# EAGLE library part MS-22D28-G020 (library MS-22D28-G020)
SMD,7x4x2.1mm Slide Switches ROHS Source: Datasheet <https://datasheet.lcsc.com/lcsc/2012062037_G-Switch-MS-22D28-G020_C963205.pdf>
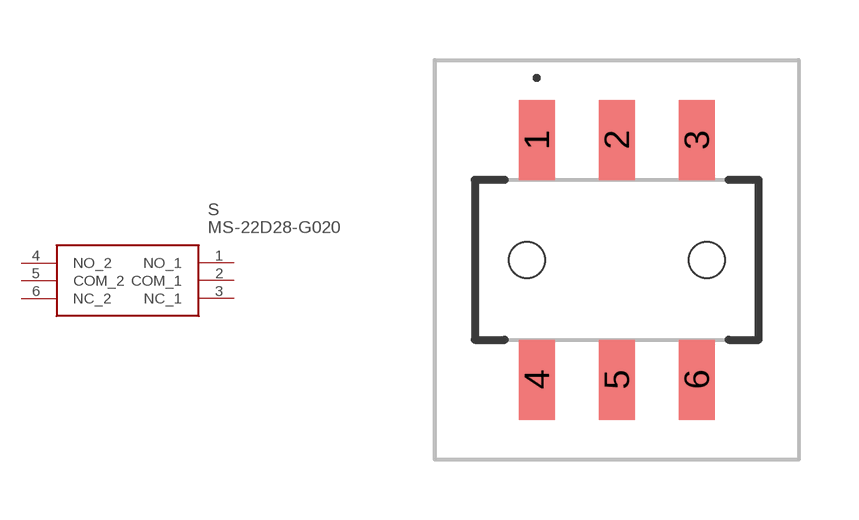
[diagram p0: symbol with the pads of MS22D28G020; footprint MS22D28G020]

Designator prefix S

## MS-22D28-G020 (Description: SMD,7x4x2.1mm Slide Switches ROHS; Height: 4.25mm; Manufacturer_Name: G-Switch Electronic; Manufacturer_Part_Number: MS-22D28-G020)  [MS22D28G020]
1  NO_1
2  COM_1
3  NC_1
4  NO_2
5  COM_2
6  NC_2

## Footprint MS22D28G020 (pad centres in mm)
MS-22D28-G020-1
smd 0.9 x 2: 1 -2,3; 2 0,3; 3 2,3; 4 -2,-3; 5 0,-3; 6 2,-3
hole 0.9 at -2.25,0
hole 0.9 at 2.25,0